# Altium schematic symbol library DIODES DUAL MOSFET P-CH SOT-363.SchLib: 1 symbol
Pins are listed as number, name and electrical type; pins without a type are passive.

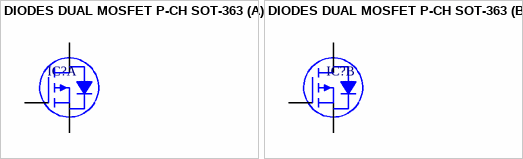
[diagram p0: symbol DIODES DUAL MOSFET P-CH SOT-363]

## DIODES DUAL MOSFET P-CH SOT-363
designator IC?
part A pins: 1 S1, 2 G1, 6 D1
part B pins: 3 D2, 4 S2, 5 G2